# EAGLE library part OPAMP-QUAD-RC4136-STYLE2 (library ryans-common-components)
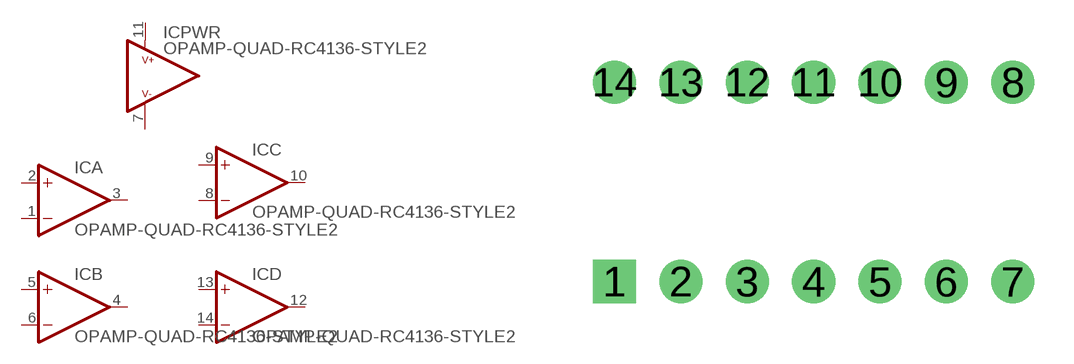
[diagram p18: symbol with the pads of DIP14-SOCKET; footprint DIP14-SOCKET]

Designator prefix IC; gates PWR=OPAMP-PWR A=OPAMP-MULT B=OPAMP-MULT C=OPAMP-MULT D=OPAMP-MULT

## OPAMP-QUAD-RC4136-STYLE2-DIP14-SOCKET  [DIP14-SOCKET]
1  A:IN-
2  A:IN+
3  A:OUT
4  B:OUT
5  B:IN+
6  B:IN-
7  PWR:V-
8  C:IN-
9  C:IN+
10  C:OUT
11  PWR:V+
12  D:OUT
13  D:IN+
14  D:IN-

## Footprint DIP14-SOCKET (pad centres in mm)
drill 0.8 pad 1.651 square: 1 -7.62,-3.81
drill 0.8 pad 1.651: 2 -5.08,-3.81; 3 -2.54,-3.81; 4 0,-3.81; 5 2.54,-3.81; 6 5.08,-3.81; 7 7.62,-3.81; 8 7.62,3.81; 9 5.08,3.81; 10 2.54,3.81; 11 0,3.81; 12 -2.54,3.81; 13 -5.08,3.81; 14 -7.62,3.81